# Altium footprint library Capacitors.PcbLib: 70 footprints (part 1 of 5)
Each footprint in its own frame and in the unit in brackets; x right, y up, seen from the top. Pads: shape width x height; smd on the part's side, far side on the other; paste and mask are expansions set on the pad; w line width, h text height; cw(c..) or ccw(c..) is an arc to the next point about the centre after c.
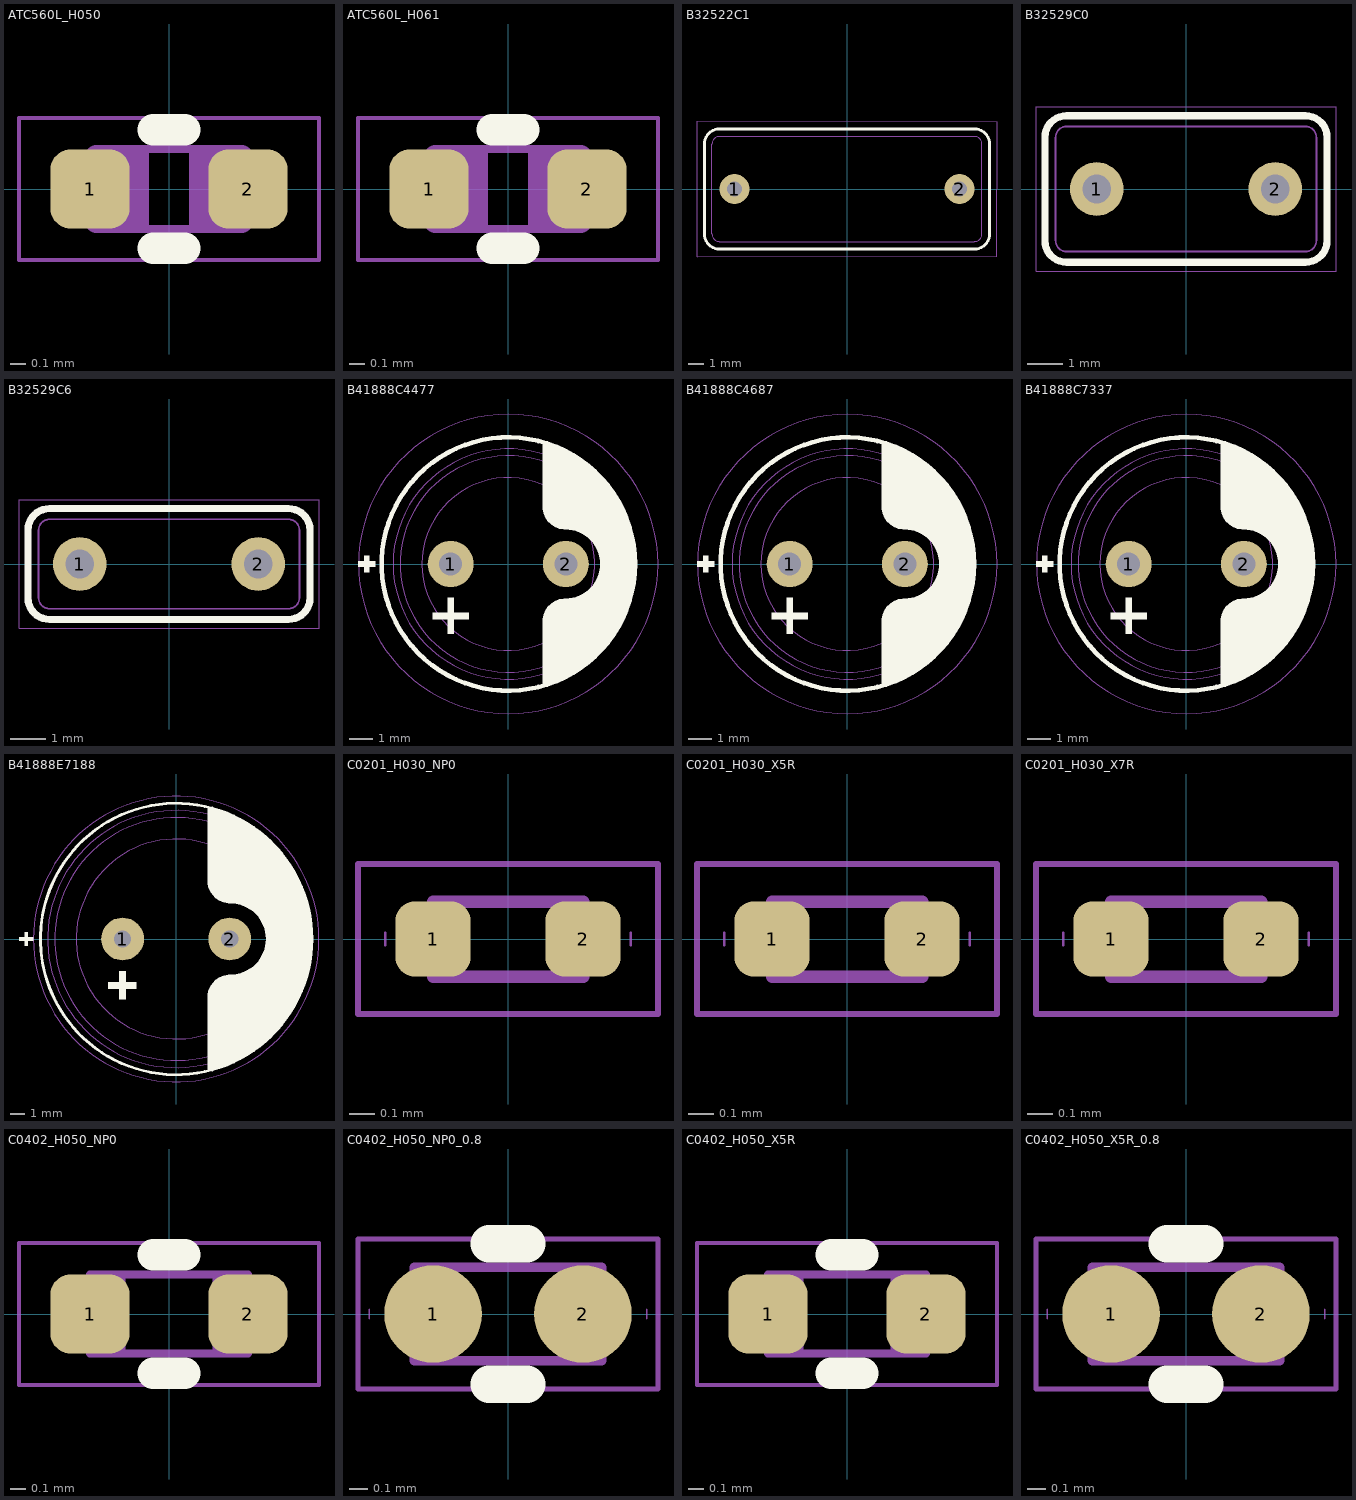
[diagram p0: the footprints below, top view; thin cyan lines are the x and y axes]

## ATC560L_H050 [mm] "SMD040210X05MM"
height 0.5
pads (2):
  rrect50% 0.5x0.5 smd mask+0.05: 1(-0.5,0) 2(0.5,0)
Top Overlay:
  lines w0.2: -0.1,-0.375 0.1,-0.375 ; -0.1,0.375 0.1,0.375
Top Courtyard:
  lines w0.025: -0.95,-0.45 -0.95,0.45 0.95,0.45 0.95,-0.45 -0.95,-0.45
Top Assembly:
  lines w0.01: -0.74,-0.025 -0.74,0.025 ; 0.74,-0.025 0.74,0.025
  lines w0.05: -0.45,-0.25 -0.45,0.25 ; -0.4,-0.25 -0.4,0.25 ; -0.35,-0.25 -0.35,0.25 ; -0.3,-0.25 -0.3,0.25 ; -0.25,-0.25 -0.25,0.25 ; -0.2,-0.25 -0.2,0.25 ; -0.152,-0.253 0.152,-0.253 ; -0.152,0.253 0.152,0.253 ; 0.2,-0.25 0.2,0.25 ; 0.25,-0.25 0.25,0.25 ; 0.3,-0.25 0.3,0.25 ; 0.35,-0.25 0.35,0.25 ; 0.4,-0.25 0.4,0.25 ; 0.45,-0.25 0.45,0.25 ; -0.508,-0.203 ccw(c-0.457,-0.203) -0.457,-0.254 -0.152,-0.254 -0.152,0.254 -0.457,0.254 ccw(c-0.457,0.203) -0.508,0.203 -0.508,-0.203 ; 0.152,-0.254 0.457,-0.254 ccw(c0.457,-0.203) 0.508,-0.203 0.508,0.203 ccw(c0.457,0.203) 0.457,0.254 0.152,0.254 0.152,-0.254
  text ".Designator" at -2.252,0.574 h1
3D body "ATC560L_H050.x_t": height 0.51, standoff 0, extent -0.508,-0.254 0.508,0.254

## ATC560L_H061 [mm] "SMD040210X061MM"
height 0.61
pads (2):
  rrect50% 0.5x0.5 smd mask+0.05: 1(-0.5,0) 2(0.5,0)
Top Overlay:
  lines w0.2: -0.1,-0.375 0.1,-0.375 ; -0.1,0.375 0.1,0.375
Top Courtyard:
  lines w0.025: -0.95,-0.45 -0.95,0.45 0.95,0.45 0.95,-0.45 -0.95,-0.45
Top Assembly:
  lines w0.01: -0.74,-0.025 -0.74,0.025 ; 0.74,-0.025 0.74,0.025
  lines w0.05: -0.45,-0.25 -0.45,0.25 ; -0.4,-0.25 -0.4,0.25 ; -0.35,-0.25 -0.35,0.25 ; -0.3,-0.25 -0.3,0.25 ; -0.25,-0.25 -0.25,0.25 ; -0.2,-0.25 -0.2,0.25 ; -0.152,-0.253 0.152,-0.253 ; -0.152,0.253 0.152,0.253 ; 0.2,-0.25 0.2,0.25 ; 0.25,-0.25 0.25,0.25 ; 0.3,-0.25 0.3,0.25 ; 0.35,-0.25 0.35,0.25 ; 0.4,-0.25 0.4,0.25 ; 0.45,-0.25 0.45,0.25 ; -0.508,-0.203 ccw(c-0.457,-0.203) -0.457,-0.254 -0.152,-0.254 -0.152,0.254 -0.457,0.254 ccw(c-0.457,0.203) -0.508,0.203 -0.508,-0.203 ; 0.152,-0.254 0.457,-0.254 ccw(c0.457,-0.203) 0.508,-0.203 0.508,0.203 ccw(c0.457,0.203) 0.457,0.254 0.152,0.254 0.152,-0.254
  text ".Designator" at -2.252,0.574 h1
3D body "ATC560L_H061.x_t": height 0.61, standoff 0, extent -0.508,-0.254 0.508,0.254

## B32522C1 [mm] "Epcos B32522, 7.0mmx18.0mmx12.5mm"
height 12.5
pads (2):
  round 2 hole 1 paste-2539.97 mask+0.05: 1(-7.5,0) 2(7.5,0)
Top Overlay:
  lines w0.2: -9.5,-3 ccw(c-8.5,-3) -8.5,-4 8.5,-4 ccw(c8.5,-3) 9.5,-3 9.5,3 ccw(c8.5,3) 8.5,4 -8.5,4 ccw(c-8.5,3) -9.5,3 -9.5,-3
Top Courtyard:
  lines w0.025: -10,-4.5 -10,4.5 10,4.5 10,-4.5 -10,-4.5
Top Assembly:
  lines w0.05: -9,-3 ccw(c-8.5,-3) -8.5,-3.5 8.5,-3.5 ccw(c8.5,-3) 9,-3 9,3 ccw(c8.5,3) 8.5,3.5 -8.5,3.5 ccw(c-8.5,3) -9,3 -9,-3
  text ".Designator" at -6.763,-0.679 h3
3D body "B32522C1.x_t": height 12.5, standoff -2.3, extent -9,-3.5 9,3.5

## B32529C0 [mm] "Epcos B32529, 3.5mmx8.0mmx7.3mm"
height 8
pads (2):
  round 1.5 hole 0.8 paste-2539.97 mask+0.05: 1(-2.5,0) 2(2.5,0)
Top Overlay:
  lines w0.2: -3.95,-1.45 ccw(c-3.35,-1.45) -3.35,-2.05 3.35,-2.05 ccw(c3.35,-1.45) 3.95,-1.45 3.95,1.45 ccw(c3.35,1.45) 3.35,2.05 -3.35,2.05 ccw(c-3.35,1.45) -3.95,1.45 -3.95,-1.45
Top Courtyard:
  lines w0.025: -4.2,-2.3 4.2,-2.3 4.2,2.3 -4.2,2.3 -4.2,-2.3
Top Assembly:
  lines w0.05: -3.65,-1.45 ccw(c-3.35,-1.45) -3.35,-1.75 3.35,-1.75 ccw(c3.35,-1.45) 3.65,-1.45 3.65,1.45 ccw(c3.35,1.45) 3.35,1.75 -3.35,1.75 ccw(c-3.35,1.45) -3.65,1.45 -3.65,-1.45
  text ".Designator" at -3.378,-0.339 h1.5
3D body "B32529C0.x_t": height 8, standoff -2.3, extent -3.65,-1.75 3.65,1.75

## B32529C6 [mm] "Epcos B32529, 2.5mmx6.5mmx7.3mm"
height 6.5
pads (2):
  round 1.5 hole 0.8 paste-2539.97 mask+0.05: 1(-2.5,0) 2(2.5,0)
Top Overlay:
  lines w0.2: -3.95,-0.95 ccw(c-3.35,-0.95) -3.35,-1.55 3.35,-1.55 ccw(c3.35,-0.95) 3.95,-0.95 3.95,0.95 ccw(c3.35,0.95) 3.35,1.55 -3.35,1.55 ccw(c-3.35,0.95) -3.95,0.95 -3.95,-0.95
Top Courtyard:
  lines w0.025: -4.2,-1.8 -4.2,1.8 4.2,1.8 4.2,-1.8 -4.2,-1.8
Top Assembly:
  lines w0.05: -3.65,-0.95 ccw(c-3.35,-0.95) -3.35,-1.25 3.35,-1.25 ccw(c3.35,-0.95) 3.65,-0.95 3.65,0.95 ccw(c3.35,0.95) 3.35,1.25 -3.35,1.25 ccw(c-3.35,0.95) -3.65,0.95 -3.65,-0.95
  text ".Designator" at -3.378,-0.339 h1.5
3D body "B32529C6.x_t": height 6.5, standoff -2.3, extent -3.65,-1.25 3.65,1.25

## B41888C4477 [mm] "Epcos B41888, d=10mm, h=12.5mm, space 5mm"
height 12.5
pads (2):
  round 2 hole 1 paste-2539.97 mask+0.05: 1(-2.5,0) 2(2.5,0)
Top Overlay:
  circle w0.2: c0,0 r5.5
  region: -1.7,-2.4 -1.7,-2.1 -3.3,-2.1 -3.3,-2.4
  rectangle: -2.65,-3.05 -2.35,-1.45
  rectangle: -6.525,-0.125 -5.775,0.125
  rectangle: -6.275,-0.375 -6.025,0.375
  region: 1.5,5.291 1.5,2.5 1.5,2.402 1.538,2.208 1.614,2.026 1.723,1.863 1.863,1.723 2.026,1.614 2.208,1.538 2.401,1.5 2.5,1.5 2.647,1.493 2.935,1.435 3.207,1.323 3.452,1.16 3.66,0.952 3.823,0.707 3.935,0.435 3.993,0.147 4,0 3.993,-0.147 3.935,-0.435 3.823,-0.707 3.66,-0.952 3.452,-1.16 3.207,-1.323 2.935,-1.435 2.647,-1.493 2.5,-1.5 2.402,-1.5 2.208,-1.538 2.026,-1.614 1.863,-1.723 1.723,-1.863 1.614,-2.026 1.538,-2.208 1.5,-2.402 1.5,-2.5 1.5,-5.292 1.786,-5.211 2.336,-4.988 2.86,-4.707 3.35,-4.372 3.801,-3.986 4.208,-3.554 4.567,-3.08 4.872,-2.57 5.12,-2.031 5.309,-1.468 5.436,-0.887 5.5,-0.297 5.5,0 5.5,0.297 5.436,0.887 5.309,1.468 5.12,2.031 4.872,2.57 4.567,3.08 4.208,3.554 3.801,3.986 3.35,4.372 2.86,4.707 2.336,4.988 1.786,5.21
Top Courtyard:
  circle w0.025: c0,0 r6.5
Top Assembly:
  lines w0.05: 3.616,-0.995 4.593,-0.995 ; 3.616,0.995 4.593,0.995 ; 2.795,-2.5 ccw(c0,0) 2.795,2.5 ; 2.795,-2.5 cw(c0,0) 2.795,2.5 ; 2.795,-2.5 3.98,-2.5 ; 2.795,2.5 3.98,2.5 ; 3.98,-2.5 ccw(c0,0) 3.98,2.5 ; 3.98,-2.5 cw(c0,0) 3.98,2.5 ; 3.98,-2.5 4.33,-2.5 ; 3.98,2.5 4.33,2.5 ; 4.33,-2.5 ccw(c0,0) 4.33,2.5 ; 4.33,-2.5 cw(c0,0) 4.33,2.5
  text ".Designator" at -6.763,-0.679 h3
3D body "B41888C4477.x_t": height 12.53, standoff -2.97, extent -5,-4.995 5,4.995

## B41888C4687 [mm] "Epcos B41888, d=10mm, h=16.0mm, space 5mm"
height 16
pads (2):
  round 2 hole 1 paste-2539.97 mask+0.05: 1(-2.5,0) 2(2.5,0)
Top Overlay:
  circle w0.2: c0,0 r5.5
  region: -1.7,-2.4 -1.7,-2.1 -3.3,-2.1 -3.3,-2.4
  rectangle: -2.65,-3.05 -2.35,-1.45
  rectangle: -6.525,-0.125 -5.775,0.125
  rectangle: -6.275,-0.375 -6.025,0.375
  region: 1.5,5.291 1.5,2.5 1.5,2.402 1.538,2.208 1.614,2.026 1.723,1.863 1.863,1.723 2.026,1.614 2.208,1.538 2.401,1.5 2.5,1.5 2.647,1.493 2.935,1.435 3.207,1.323 3.452,1.16 3.66,0.952 3.823,0.707 3.935,0.435 3.993,0.147 4,0 3.993,-0.147 3.935,-0.435 3.823,-0.707 3.66,-0.952 3.452,-1.16 3.207,-1.323 2.935,-1.435 2.647,-1.493 2.5,-1.5 2.402,-1.5 2.208,-1.538 2.026,-1.614 1.863,-1.723 1.723,-1.863 1.614,-2.026 1.538,-2.208 1.5,-2.402 1.5,-2.5 1.5,-5.292 1.786,-5.211 2.336,-4.988 2.86,-4.707 3.35,-4.372 3.801,-3.986 4.208,-3.554 4.567,-3.08 4.872,-2.57 5.12,-2.031 5.309,-1.468 5.436,-0.887 5.5,-0.297 5.5,0 5.5,0.297 5.436,0.887 5.309,1.468 5.12,2.031 4.872,2.57 4.567,3.08 4.208,3.554 3.801,3.986 3.35,4.372 2.86,4.707 2.336,4.988 1.786,5.21
Top Courtyard:
  circle w0.025: c0,0 r6.5
Top Assembly:
  lines w0.05: 3.616,-0.995 4.593,-0.995 ; 3.616,0.995 4.593,0.995 ; 2.795,-2.5 ccw(c0,0) 2.795,2.5 ; 2.795,-2.5 cw(c0,0) 2.795,2.5 ; 2.795,-2.5 3.98,-2.5 ; 2.795,2.5 3.98,2.5 ; 3.98,-2.5 ccw(c0,0) 3.98,2.5 ; 3.98,-2.5 cw(c0,0) 3.98,2.5 ; 3.98,-2.5 4.33,-2.5 ; 3.98,2.5 4.33,2.5 ; 4.33,-2.5 ccw(c0,0) 4.33,2.5 ; 4.33,-2.5 cw(c0,0) 4.33,2.5
  text ".Designator" at -6.763,-0.679 h3
3D body "B41888C4687.x_t": height 16.03, standoff -2.97, extent -5,-4.995 5,4.995

## B41888C7337 [mm] "Epcos B41888, d=10mm, h=16.0mm, space 5mm"
height 16
pads (2):
  round 2 hole 1 paste-2539.97 mask+0.05: 1(-2.5,0) 2(2.5,0)
Top Overlay:
  circle w0.2: c0,0 r5.5
  region: -1.7,-2.4 -1.7,-2.1 -3.3,-2.1 -3.3,-2.4
  rectangle: -2.65,-3.05 -2.35,-1.45
  rectangle: -6.525,-0.125 -5.775,0.125
  rectangle: -6.275,-0.375 -6.025,0.375
  region: 1.5,5.291 1.5,2.5 1.5,2.402 1.538,2.208 1.614,2.026 1.723,1.863 1.863,1.723 2.026,1.614 2.208,1.538 2.401,1.5 2.5,1.5 2.647,1.493 2.935,1.435 3.207,1.323 3.452,1.16 3.66,0.952 3.823,0.707 3.935,0.435 3.993,0.147 4,0 3.993,-0.147 3.935,-0.435 3.823,-0.707 3.66,-0.952 3.452,-1.16 3.207,-1.323 2.935,-1.435 2.647,-1.493 2.5,-1.5 2.402,-1.5 2.208,-1.538 2.026,-1.614 1.863,-1.723 1.723,-1.863 1.614,-2.026 1.538,-2.208 1.5,-2.402 1.5,-2.5 1.5,-5.292 1.786,-5.211 2.336,-4.988 2.86,-4.707 3.35,-4.372 3.801,-3.986 4.208,-3.554 4.567,-3.08 4.872,-2.57 5.12,-2.031 5.309,-1.468 5.436,-0.887 5.5,-0.297 5.5,0 5.5,0.297 5.436,0.887 5.309,1.468 5.12,2.031 4.872,2.57 4.567,3.08 4.208,3.554 3.801,3.986 3.35,4.372 2.86,4.707 2.336,4.988 1.786,5.21
Top Courtyard:
  circle w0.025: c0,0 r6.5
Top Assembly:
  lines w0.05: 3.616,-0.995 4.593,-0.995 ; 3.616,0.995 4.593,0.995 ; 2.795,-2.5 ccw(c0,0) 2.795,2.5 ; 2.795,-2.5 cw(c0,0) 2.795,2.5 ; 2.795,-2.5 3.98,-2.5 ; 2.795,2.5 3.98,2.5 ; 3.98,-2.5 ccw(c0,0) 3.98,2.5 ; 3.98,-2.5 cw(c0,0) 3.98,2.5 ; 3.98,-2.5 4.33,-2.5 ; 3.98,2.5 4.33,2.5 ; 4.33,-2.5 ccw(c0,0) 4.33,2.5 ; 4.33,-2.5 cw(c0,0) 4.33,2.5
  text ".Designator" at -6.763,-0.679 h3
3D body "B41888C7337.x_t": height 16.03, standoff -2.97, extent -5,-4.995 5,4.995

## B41888E7188 [mm] "Epcos B41888, d=18mm, h=20.0mm, space 7.5mm"
height 20
pads (2):
  round 3 hole 1.2 paste-2539.97 mask+0.05: 1(-3.75,0) 2(3.75,0)
Top Overlay:
  circle w0.2: c0,0 r9.5
  region: -2.784,-3.493 -2.784,-2.993 -4.784,-2.993 -4.784,-3.493
  rectangle: -4,-4.25 -3.5,-2.25
  rectangle: -11,-0.125 -10,0.125
  region: -10.375,-0.5 -10.375,0.5 -10.625,0.5 -10.625,-0.5
  region: 2.2,9.242 2.2,4.1 2.2,3.943 2.261,3.633 2.382,3.342 2.557,3.08 2.78,2.857 3.042,2.682 3.333,2.561 3.642,2.5 3.8,2.5 4.045,2.488 4.526,2.392 4.978,2.205 5.386,1.933 5.733,1.586 6.005,1.178 6.192,0.726 6.288,0.245 6.3,0 6.288,-0.245 6.192,-0.726 6.005,-1.178 5.733,-1.586 5.386,-1.933 4.978,-2.205 4.526,-2.392 4.045,-2.488 3.8,-2.5 3.642,-2.5 3.333,-2.561 3.042,-2.682 2.78,-2.857 2.557,-3.08 2.382,-3.342 2.261,-3.633 2.2,-3.942 2.2,-4.1 2.2,-9.242 2.586,-9.15 3.341,-8.902 4.072,-8.592 4.775,-8.222 5.445,-7.795 6.077,-7.313 6.666,-6.78 7.209,-6.2 7.701,-5.577 8.14,-4.915 8.521,-4.218 8.844,-3.492 9.104,-2.742 9.302,-1.972 9.434,-1.189 9.5,-0.397 9.5,0 9.5,0.397 9.434,1.189 9.302,1.972 9.104,2.742 8.844,3.492 8.521,4.218 8.14,4.915 7.701,5.577 7.209,6.2 6.666,6.78 6.077,7.313 5.445,7.795 4.775,8.222 4.072,8.592 3.341,8.902 2.586,9.15
Top Courtyard:
  circle w0.025: c0,0 r10
Top Assembly:
  lines w0.05: 6.538,-2.5 cw(c0,0) 6.538,2.5 ; 6.538,-2.5 ccw(c0,0) 6.538,2.5 ; 6.538,-2.5 8.124,-2.5 ; 6.538,2.5 8.124,2.5 ; 8.124,-2.5 ccw(c0,0) 8.124,2.5 ; 8.124,-2.5 cw(c0,0) 8.124,2.5 ; 8.124,-2.5 8.646,-2.5 ; 8.124,2.5 8.646,2.5 ; 8.646,-2.5 ccw(c0,0) 8.646,2.5 ; 8.646,-2.5 cw(c0,0) 8.646,2.5
  text ".Designator" at -6.763,-0.679 h3
3D body "B41888E7188.x_t": height 20.03, standoff -2.97, extent -9,-8.992 9,8.992

## C0201_H030_NP0 [mm] "SMD020106X03MM"
height 0.3
pads (2):
  rrect50% 0.3x0.3 smd paste+0.021 mask+0.05: 1(-0.3,0) 2(0.3,0)
Top Courtyard:
  lines w0.025: -0.6,-0.3 -0.6,0.3 0.6,0.3 0.6,-0.3 -0.6,-0.3
Top Assembly:
  lines w0.01: -0.49,-0.025 -0.49,0.025 ; 0.49,-0.025 0.49,0.025
  lines w0.05: -0.25,-0.15 -0.25,0.15 ; -0.2,-0.15 -0.2,0.15 ; 0.2,-0.15 0.2,0.15 ; 0.25,-0.15 0.25,0.15 ; -0.3,-0.15 0.3,-0.15 0.3,0.15 -0.3,0.15 -0.3,-0.15
  text ".Designator" at -2.252,0.574 h1
3D body "C0201_H030_NP0.x_t": height 0.3, standoff 0, extent -0.3,-0.15 0.3,0.15

## C0201_H030_X5R [mm] "SMD020106X03MM"
height 0.3
pads (2):
  rrect50% 0.3x0.3 smd paste+0.021 mask+0.05: 1(-0.3,0) 2(0.3,0)
Top Courtyard:
  lines w0.025: -0.6,-0.3 0.6,-0.3 0.6,0.3 -0.6,0.3 -0.6,-0.3
Top Assembly:
  lines w0.01: -0.49,-0.025 -0.49,0.025 ; 0.49,-0.025 0.49,0.025
  lines w0.05: -0.25,-0.15 -0.25,0.15 ; -0.2,-0.15 -0.2,0.15 ; 0.2,-0.15 0.2,0.15 ; 0.25,-0.15 0.25,0.15 ; -0.3,-0.15 0.3,-0.15 0.3,0.15 -0.3,0.15 -0.3,-0.15
  text ".Designator" at -2.252,0.574 h1
3D body "C0201_H030_X5R.x_t": height 0.3, standoff 0, extent -0.3,-0.15 0.3,0.15

## C0201_H030_X7R [mm] "SMD020106X03MM"
height 0.3
pads (2):
  rrect50% 0.3x0.3 smd paste+0.021 mask+0.05: 1(-0.3,0) 2(0.3,0)
Top Courtyard:
  lines w0.025: -0.6,-0.3 -0.6,0.3 0.6,0.3 0.6,-0.3 -0.6,-0.3
Top Assembly:
  lines w0.01: -0.49,-0.025 -0.49,0.025 ; 0.49,-0.025 0.49,0.025
  lines w0.05: -0.25,-0.15 -0.25,0.15 ; -0.2,-0.15 -0.2,0.15 ; 0.2,-0.15 0.2,0.15 ; 0.25,-0.15 0.25,0.15 ; -0.3,-0.15 0.3,-0.15 0.3,0.15 -0.3,0.15 -0.3,-0.15
  text ".Designator" at -2.252,0.574 h1
3D body "C0201_H030_X7R.x_t": height 0.3, standoff 0, extent -0.3,-0.15 0.3,0.15

## C0402_H050_NP0 [mm] "SMD040210X05MM"
height 0.5
pads (2):
  rrect50% 0.5x0.5 smd mask+0.05: 1(-0.5,0) 2(0.5,0)
Top Overlay:
  lines w0.2: -0.1,-0.375 0.1,-0.375 ; -0.1,0.375 0.1,0.375
Top Courtyard:
  lines w0.025: -0.95,-0.45 -0.95,0.45 0.95,0.45 0.95,-0.45 -0.95,-0.45
Top Assembly:
  lines w0.01: -0.74,-0.025 -0.74,0.025 ; 0.74,-0.025 0.74,0.025
  lines w0.05: -0.45,-0.25 -0.45,0.25 ; -0.4,-0.25 -0.4,0.25 ; -0.35,-0.25 -0.35,0.25 ; -0.3,-0.25 -0.3,0.25 ; 0.3,-0.25 0.3,0.25 ; 0.35,-0.25 0.35,0.25 ; 0.4,-0.25 0.4,0.25 ; 0.45,-0.25 0.45,0.25 ; -0.5,-0.25 0.5,-0.25 0.5,0.25 -0.5,0.25 -0.5,-0.25
  text ".Designator" at -2.252,0.574 h1
3D body "C0402_H050_NP0.x_t": height 0.5, standoff 0, extent -0.5,-0.25 0.5,0.25

## C0402_H050_NP0_0.8 [mm] "SMD040210X05MM for BGA with 0.8mm pitch"
height 0.5
pads (2):
  round 0.52 smd paste-0.025 mask+0.04: 1(-0.4,0) 2(0.4,0)
Top Overlay:
  lines w0.2: -0.1,-0.375 0.1,-0.375 ; -0.1,0.375 0.1,0.375
Top Courtyard:
  lines w0.025: -0.8,-0.4 0.8,-0.4 0.8,0.4 -0.8,0.4 -0.8,-0.4
Top Assembly:
  lines w0.01: -0.74,-0.025 -0.74,0.025 ; 0.74,-0.025 0.74,0.025
  lines w0.05: -0.45,-0.25 -0.45,0.25 ; -0.4,-0.25 -0.4,0.25 ; -0.35,-0.25 -0.35,0.25 ; -0.3,-0.25 -0.3,0.25 ; 0.3,-0.25 0.3,0.25 ; 0.35,-0.25 0.35,0.25 ; 0.4,-0.25 0.4,0.25 ; 0.45,-0.25 0.45,0.25 ; -0.5,-0.25 -0.5,0.25 0.5,0.25 0.5,-0.25 -0.5,-0.25
  text ".Designator" at -2.252,0.574 h1
3D body "C0402_H050_NP0.x_t": height 0.5, standoff 0, extent -0.5,-0.25 0.5,0.25

## C0402_H050_X5R [mm] "SMD040210X05MM"
height 0.5
pads (2):
  rrect50% 0.5x0.5 smd mask+0.05: 1(-0.5,0) 2(0.5,0)
Top Overlay:
  lines w0.2: -0.1,-0.375 0.1,-0.375 ; -0.1,0.375 0.1,0.375
Top Courtyard:
  lines w0.025: -0.95,-0.45 -0.95,0.45 0.95,0.45 0.95,-0.45 -0.95,-0.45
Top Assembly:
  lines w0.01: -0.74,-0.025 -0.74,0.025 ; 0.74,-0.025 0.74,0.025
  lines w0.05: -0.45,-0.25 -0.45,0.25 ; -0.4,-0.25 -0.4,0.25 ; -0.35,-0.25 -0.35,0.25 ; -0.3,-0.25 -0.3,0.25 ; 0.3,-0.25 0.3,0.25 ; 0.35,-0.25 0.35,0.25 ; 0.4,-0.25 0.4,0.25 ; 0.45,-0.25 0.45,0.25 ; -0.5,-0.25 -0.5,0.25 0.5,0.25 0.5,-0.25 -0.5,-0.25
  text ".Designator" at -2.252,0.574 h1
3D body "C0402_H050_X5R.x_t": height 0.5, standoff 0, extent -0.5,-0.25 0.5,0.25

## C0402_H050_X5R_0.8 [mm] "SMD040210X05MM for BGA with 0.8mm pitch"
height 0.5
pads (2):
  round 0.52 smd paste-0.025 mask+0.04: 1(-0.4,0) 2(0.4,0)
Top Overlay:
  lines w0.2: -0.1,-0.375 0.1,-0.375 ; -0.1,0.375 0.1,0.375
Top Courtyard:
  lines w0.025: -0.8,-0.4 -0.8,0.4 0.8,0.4 0.8,-0.4 -0.8,-0.4
Top Assembly:
  lines w0.01: -0.74,-0.025 -0.74,0.025 ; 0.74,-0.025 0.74,0.025
  lines w0.05: -0.45,-0.25 -0.45,0.25 ; -0.4,-0.25 -0.4,0.25 ; -0.35,-0.25 -0.35,0.25 ; -0.3,-0.25 -0.3,0.25 ; 0.3,-0.25 0.3,0.25 ; 0.35,-0.25 0.35,0.25 ; 0.4,-0.25 0.4,0.25 ; 0.45,-0.25 0.45,0.25 ; -0.5,-0.25 0.5,-0.25 0.5,0.25 -0.5,0.25 -0.5,-0.25
  text ".Designator" at -2.252,0.574 h1
3D body "C0402_H050_X5R.x_t": height 0.5, standoff 0, extent -0.5,-0.25 0.5,0.25